# EAGLE library part FLATSONY-13- (library untitled)
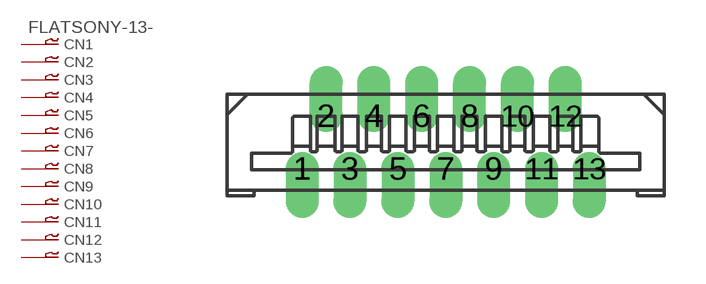
[diagram p0: symbol with the pads of FLATSONY13; footprint FLATSONY13]

Designator prefix CN; gates 1=P-VN 2=P-N 3=P-N 4=P-N 5=P-N 6=P-N 7=P-N 8=P-N 9=P-N 10=P-N 11=P-N 12=P-N 13=P-N

## FLATSONY-13-UPRIGHT  [FLATSONY13]
1  1:1  pas
2  2:1  pas
3  3:1  pas
4  4:1  pas
5  5:1  pas
6  6:1  pas
7  7:1  pas
8  8:1  pas
9  9:1  pas
10  10:1  pas
11  11:1  pas
12  12:1  pas
13  13:1  pas

## Footprint FLATSONY13 (pad centres in mm)
drill 0.7 offset: 1 -5.25,-0.95; 2 -4.375,0.975; 3 -3.5,-0.95; 4 -2.625,0.975; 5 -1.75,-0.95; 6 -0.875,0.975; 7 0,-0.95; 8 0.875,0.975; 9 1.75,-0.95; 10 2.625,0.975; 11 3.5,-0.95; 12 4.375,0.975; 13 5.25,-0.95